# Altium footprint library PcbLib1.PcbLib: 5 footprints
Each footprint in its own frame and in the unit in brackets; x right, y up, seen from the top. Pads: shape width x height; smd on the part's side, far side on the other; paste and mask are expansions set on the pad; w line width, h text height; cw(c..) or ccw(c..) is an arc to the next point about the centre after c.
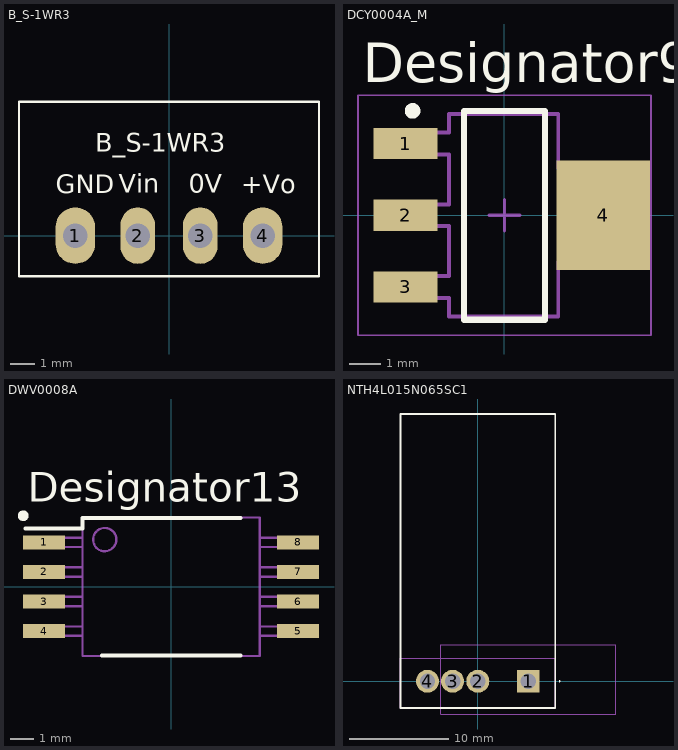
[diagram p0: the footprints below, top view; thin cyan lines are the x and y axes]

## B_S-1WR3 [mm]
pads (4):
  oval 1.6x2.3 hole 1: 1(-3.81,0) 4(3.81,0)
  oval 1.4x2.3 hole 1: 2(-1.27,0) 3(1.27,0)
Top Overlay:
  lines w0.1: -6.1,-1.662 -6.1,5.45 6.1,5.45 6.1,-1.662 -6.1,-1.662
  text "0V" at 0.808,1.734 h0.76
  text "+Vo" at 2.93,1.716 h0.76
  text "Vin" at -2.034,1.731 h0.76
  text "B_S-1WR3" at -3.006,3.418 h0.76
  text "GND" at -4.607,1.724 h0.76
3D body "B-S-1WR3.stp": height 10.2, standoff -4.06, extent -5.814,-0.885 5.786,5.115

## DCY0004A_M [mm]
pads (4):
  rect 2.05x1 smd paste+0 mask+0.051: 1(-3.175,2.3) 2(-3.175,0) 3(-3.175,-2.3)
  rect 3x3.5 smd paste+0 mask+0.051: 4(3.175,0)
Top Overlay:
  circle w0.25: c-2.95,3.35 r0.125
  lines w0.2: -1.3,-3.35 -1.3,3.35 1.3,3.35 1.3,-3.35 -1.3,-3.35
  text "Designator9" at -4.547,4.267 h1.27
Mechanical 13:
  lines w0.127: -3.525,-2.65 -2.797,-2.65 -2.612,-2.65 -2.374,-2.65 -2.003,-2.65 -1.775,-2.65 -1.775,-3.25 1.725,-3.25 1.725,-1.5 1.953,-1.5 2.324,-1.5 2.562,-1.5 2.747,-1.5 3.475,-1.5 3.475,1.5 2.747,1.5 2.562,1.5 2.324,1.5 1.953,1.5 1.725,1.5 1.725,3.25 -1.775,3.25 -1.775,2.65 -2.003,2.65 -2.374,2.65 -2.612,2.65 -2.797,2.65 -3.525,2.65 -3.525,1.95 -2.797,1.95 -2.612,1.95 -2.374,1.95 -2.003,1.95 -1.775,1.95 -1.775,0.35 -2.003,0.35 -2.374,0.35 -2.612,0.35 -2.797,0.35 -3.525,0.35 -3.525,-0.35 -2.797,-0.35 -2.612,-0.35 -2.374,-0.35 -2.003,-0.35 -1.775,-0.35 -1.775,-1.95 -2.003,-1.95 -2.374,-1.95 -2.612,-1.95 -2.797,-1.95 -3.525,-1.95 -3.525,-2.65
Mechanical 15:
  lines w0.05: -4.7,-3.85 4.7,-3.85 4.7,3.85 -4.7,3.85 -4.7,-3.85
  lines w0.1: -0.5,0 0.5,0 ; 0,-0.5 0,0.5
3D body "DCY0004A.stp": height 1.78, standoff 0.1, extent -3.5,-3.25 3.5,3.25

## DWV0008A [mm]
pads (8):
  rect 1.8x0.6 smd paste+0 mask+0.051: 1(-5.45,1.905) 2(-5.45,0.635) 3(-5.45,-0.635) 4(-5.45,-1.905) 5(5.45,-1.905) 6(5.45,-0.635) 7(5.45,0.635) 8(5.45,1.905)
Top Overlay:
  circle w0.1: c-6.35,3.048 r0.043
  circle w0.1: c-6.35,3.048 r0.037
  circle w0.1: c-6.35,3.048 r0.125
  circle w0.1: c-6.35,3.048 r0.18
  lines w0.17: -6.25,2.5 -3.8,2.5 -3.8,2.95 2.975,2.95 ; -2.975,-2.95 2.975,-2.95
  text "Designator13" at -6.147,3.658 h1.27
Mechanical 13:
  circle w0.1: c-2.85,2.025 r0.5
  lines w0.1: -3.805,-2.105 -5.8,-2.105 -5.8,-1.705 -3.805,-1.705 ; -3.805,-0.835 -5.8,-0.835 -5.8,-0.435 -3.805,-0.435 ; -3.805,0.435 -5.8,0.435 -5.8,0.835 -3.805,0.835 ; -3.805,1.705 -5.8,1.705 -5.8,2.105 -3.805,2.105 ; 3.805,-2.105 5.8,-2.105 5.8,-1.705 3.805,-1.705 ; 3.805,-0.835 5.8,-0.835 5.8,-0.435 3.805,-0.435 ; 3.805,0.435 5.8,0.435 5.8,0.835 3.805,0.835 ; 3.805,1.705 5.8,1.705 5.8,2.105 3.805,2.105 ; -3.8,-2.975 -3.8,2.975 3.8,2.975 3.8,-2.975 -3.8,-2.975
3D body "DWV0008A.stp": height 2.72, standoff 0.02, extent -5.768,-2.925 5.768,2.925

## Heatsink [mm]
3D body "R2A-CT4-38E.STEP": height 11, standoff -12.4, extent -17.6,-3.6 17.6,38

## NTH4L015N065SC1 [mm]
pads (4):
  rect 2.31x2.31 hole 1.54: 1(5.08,0)
  round 2.31 hole 1.54: 2(0,0) 3(-2.54,0) 4(-5.08,0)
Top Overlay:
  lines w0.1: 8.18,0 cw(c8.23,0) 8.28,0 cw(c8.23,0) 8.18,0
  lines w0.2: -7.8,-2.7 7.8,-2.7 7.8,26.924 -7.8,26.924 -7.8,-2.7
Mechanical 15:
  lines w0.1: -7.8,-2.7 7.8,-2.7 7.8,2.3 -7.8,2.3 -7.8,-2.7
Mechanical 20:
  lines w0.1: -3.72,-3.3 13.88,-3.3 13.88,3.7 -3.72,3.7 -3.72,-3.3
3D body "TO247-4-Horizontal.step": height 5.7, standoff -7, extent -7.9,-0.254 7.9,26.866